# EAGLE library part HEADER_3X6P_ESPPROG (library FRA_eagle_lib)
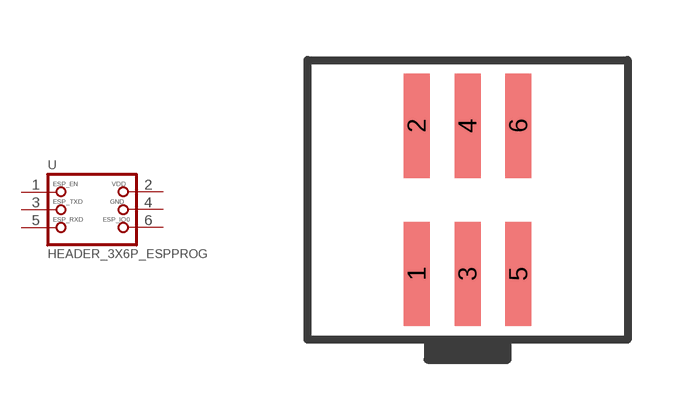
[diagram p0: symbol with the pads of 2X03_1.27MM_SMT; footprint 2X03_1.27MM_SMT]

Designator prefix -

## HEADER_3X6P_ESPPROG  [2X03_1.27MM_SMT]
1  1  pas
2  2  pas
3  3  pas
4  4  pas
5  5  pas
6  6  pas

## Footprint 2X03_1.27MM_SMT (pad centres in mm)
smd 0.65 x 2.6: 1 -1.27,-1.85; 2 -1.27,1.85; 3 0,-1.85; 4 0,1.85; 5 1.27,-1.85; 6 1.27,1.85